# Altium footprint library SF72S006VBDR2500.PcbLib: 1 footprints
Each footprint in its own frame and in the unit in brackets; x right, y up, seen from the top. Pads: shape width x height; smd on the part's side, far side on the other; paste and mask are expansions set on the pad; w line width, h text height; cw(c..) or ccw(c..) is an arc to the next point about the centre after c.
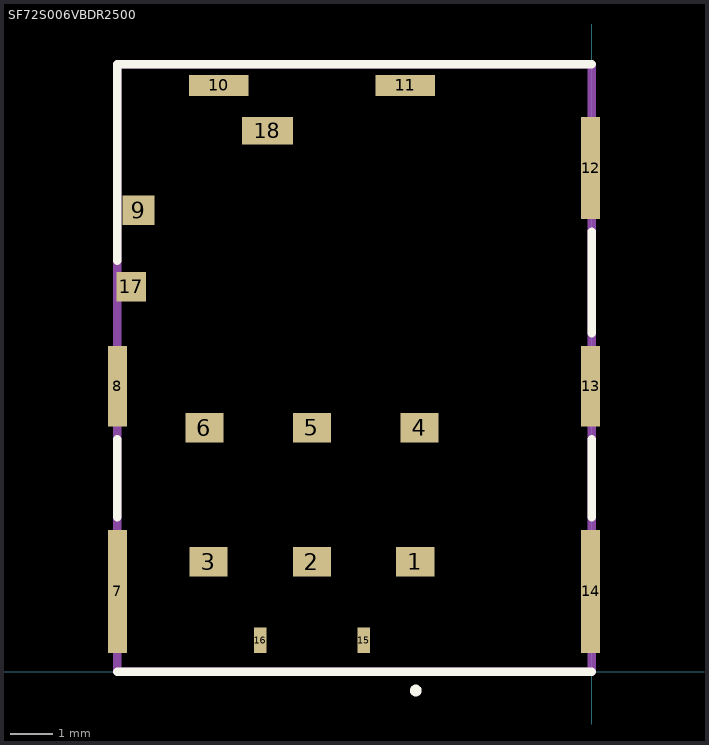
[diagram p0: the footprint, top view; thin cyan lines are the x and y axes]

## SF72S006VBDR2500 [mm]
pads (18):
  rect 0.9x0.7 smd: 1(-4.165,2.6) 2(-6.605,2.6) 3(-9.045,2.6) 4(-4.065,5.77) 5(-6.605,5.77) 6(-9.145,5.77)
  rect 0.45x2.9 smd: 7(-11.2,1.9) 14(-0.025,1.9)
  rect 0.45x1.9 smd: 8(-11.2,6.75) 13(-0.025,6.75)
  rect 0.75x0.7 smd: 9(-10.7,10.9)
  rect 1.4x0.5 smd: 10(-8.805,13.85) 11(-4.405,13.85)
  rect 0.45x2.4 smd: 12(-0.025,11.9)
  rect 0.3x0.6 smd: 15(-5.385,0.75) 16(-7.825,0.75)
  rect 0.7x0.7 smd: 17(-10.875,9.1)
  rect 1.2x0.65 smd: 18(-7.658,12.775)
Top Overlay:
  circle w0.2: c-4.154,-0.439 r0.039
  lines w0.2: -11.2,0 0,0 ; -11.2,3.65 -11.2,5.49 ; -11.2,9.709 -11.2,14.35 0,14.35 ; 0,3.65 0,5.49 ; 0,8 0,10.401
Mechanical 15:
  lines w0.2: -11.2,0 0,0 0,14.35 -11.2,14.35 -11.2,0